# Altium schematic symbol library AntennaLib.SchLib: 1 symbol
Pins are listed as number, name and electrical type; pins without a type are passive.

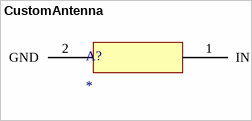
[diagram p0: symbol CustomAntenna]

## CustomAntenna
designator A?  (net tie, no BOM)
Custom Antenna from CST
footprint CustomAntennaFootprint
pins: 1 IN, 2 GND